# Altium schematic symbol library driver.SCHLIB: 35 symbols
Pins are listed as number, name and electrical type; pins without a type are passive.

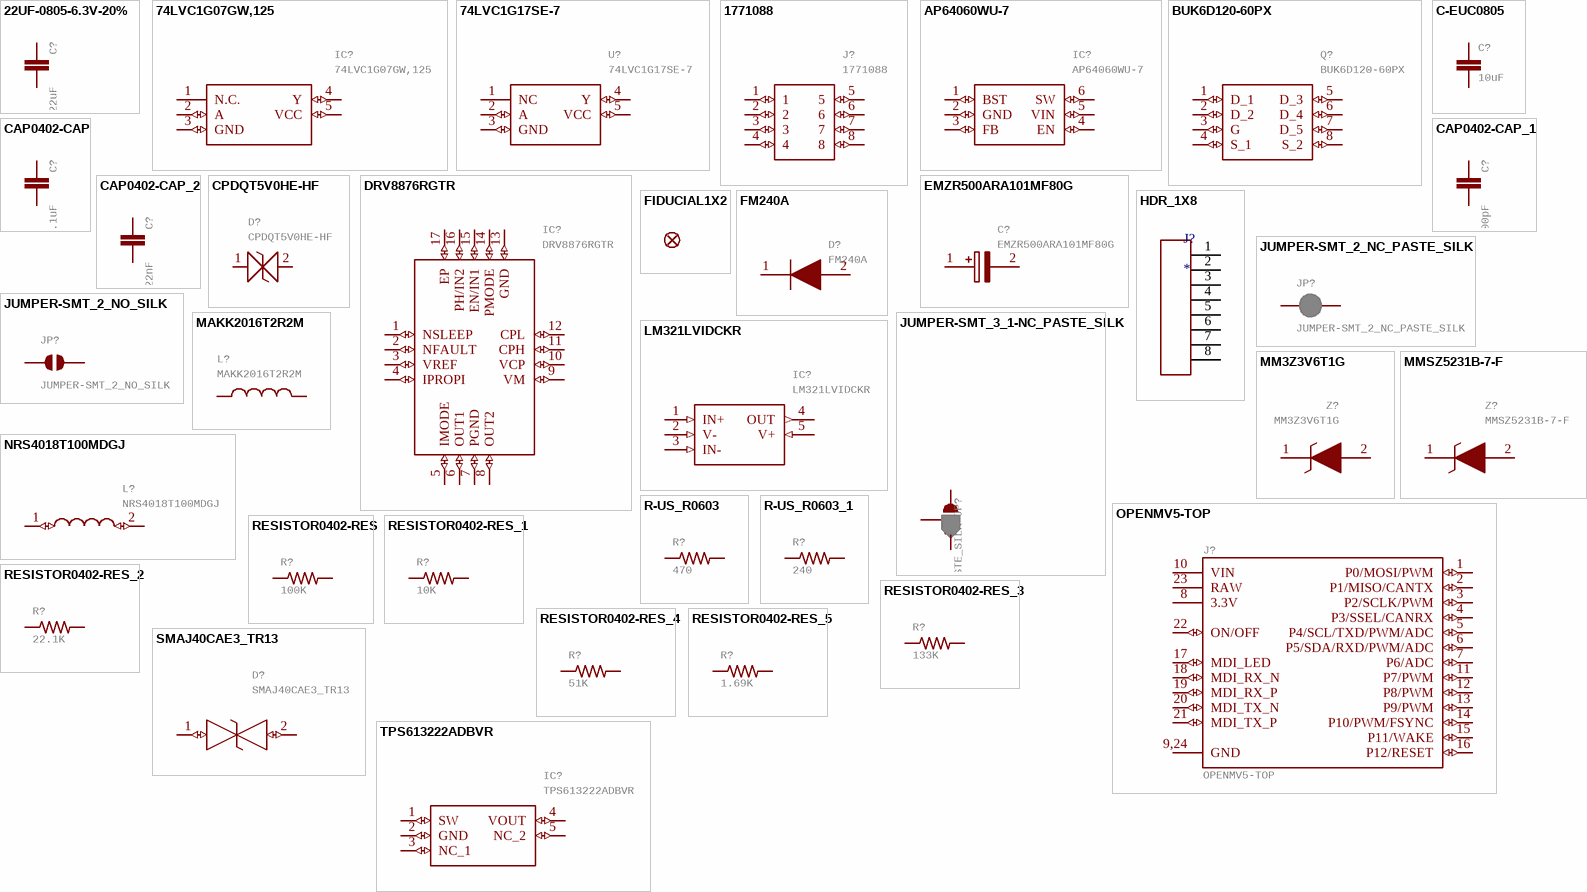
[diagram p0: symbols 22UF-0805-6.3V-20% to TPS613222ADBVR]

## 22UF-0805-6.3V-20%
designator C?, comment 22uF
22ÂµF ceramic capacitors    A capacitor is a passive two-terminal electrical component used to store electrical energy temporarily in an electric field.; MPN: CL21A226MQQNNNE; GateName_1: G$1; SymbolName_1: CAP; DeviceName: -0805-6.3V-20%; PROD_ID: CAP-08402; LibraryName: SparkFun-Capacitors; DeviceSetName: 22UF
footprint 0805
pins: 1, 2

## 74LVC1G07GW,125
designator IC?
74LVC1G07 - Buffer with open-drain output@en-us   Source:  Datasheet; MANUFACTURER_NAME: Nexperia; GateName_1: G$1; SymbolName_1: 74LVC1G07GW,125; LibraryName: 74LVC1G07GW_125; DeviceSetName: 74LVC1G07GW,125; HEIGHT: 1.1mm; MANUFACTURER_PART_NUMBER: 74LVC1G07GW,125; MOUSER_PART_NUMBER: 771-74LVC1G07GW-G; MOUSER_PRICE-STOCK: https://www.mouser.co.uk/ProductDetail/Nexperia/74LVC1G07GW125?qs=me8TqzrmIYW763Mg%2FG86Uw%3D%3D; MPN: 74LVC1G07GW,125
footprint SOT65P212X110-5N
pins: 1 N.C., 2 A (io), 3 GND (io), 4 Y (io), 5 VCC (io)

## 74LVC1G17SE-7
designator U?
DiodesZetex 74LVC1G17SE-7, Buffer, Push-Pull, Non-Inverting, 1.65  5.5 V, 5-Pin SOT-353   Source:  Datasheet; MANUFACTURER_NAME: Diodes Inc.; GateName_1: G$1; SymbolName_1: 74LVC1G17SE-7; LibraryName: 74LVC1G17SE-7; DeviceSetName: 74LVC1G17SE-7; HEIGHT: 1.1mm; MANUFACTURER_PART_NUMBER: 74LVC1G17SE-7; MOUSER_PART_NUMBER: 621-74LVC1G17SE-7; MOUSER_PRICE-STOCK: https://www.mouser.co.uk/ProductDetail/Diodes-Incorporated/74LVC1G17SE-7?qs=FRHfhEBFk1dzIcstjqNcyA%3D%3D; MPN: 74LVC1G17SE-7
footprint SOT65P210X110-5N
pins: 1 NC, 2 A (io), 3 GND (io), 4 Y (io), 5 VCC (io)

## 1771088
designator J?
PCB terminal block, nominal current: 6 A, rated voltage (III/2): 160 V, nominal cross section: 0.5 mm?, Number of potentials: 8, Number of rows: 1, Number of positions per row: 8, product range: PTSM 0,5/..-H-SMD, pitch: 2.5 mm, connection method: Push-in spring connection, mounting: SMD soldering, conductor/PCB connection direction: 0 ?, color: black, Pin layout: Linear pad geometry, type of packaging: packed in cardboard   Source:  Datasheet; MANUFACTURER_NAME: Phoenix Contact; GateName_1: G$1; SymbolName_1: 1771088; LibraryName: 1771088; DeviceSetName: 1771088; HEIGHT: 5.22mm; MANUFACTURER_PART_NUMBER: 1771088; MOUSER_PART_NUMBER: 651-1771088; MOUSER_PRICE-STOCK: https://www.mouser.co.uk/ProductDetail/Phoenix-Contact/1771088?qs=Q77YN%2FRrsKIDMojcNKtpFQ%3D%3D; MPN: 1771088
footprint 1771088
pins: 1 (io), 2 (io), 3 (io), 4 (io), 5 (io), 6 (io), 7 (io), 8 (io)

## AP64060WU-7
designator IC?
Switching Voltage Regulators DCDC Conv HV Buck TSOT26(STD) T&R 3K   Source:  Datasheet; MANUFACTURER_NAME: Diodes Inc.; GateName_1: G$1; SymbolName_1: AP64060WU-7; LibraryName: AP64060WU-7; DeviceSetName: AP64060WU-7; HEIGHT: 1mm; MANUFACTURER_PART_NUMBER: AP64060WU-7; MOUSER_PART_NUMBER: 621-AP64060WU-7; MOUSER_PRICE-STOCK: https://www.mouser.co.uk/ProductDetail/Diodes-Incorporated/AP64060WU-7?qs=Li%252BoUPsLEntiZYjFw%252BCbiQ%3D%3D; MPN: AP64060WU-7
footprint SOT95P280X100-6N
pins: 1 BST (io), 2 GND (io), 3 FB (io), 4 EN (io), 5 VIN (io), 6 SW (io)

## BUK6D120-60PX
designator Q?
MOSFET 60V P-CH TRENCHMOS SOT1220   Source:  Datasheet; MANUFACTURER_NAME: Nexperia; GateName_1: G$1; SymbolName_1: BUK6D120-60PX; LibraryName: BUK6D120-60PX; DeviceSetName: BUK6D120-60PX; HEIGHT: 0.65mm; MANUFACTURER_PART_NUMBER: BUK6D120-60PX; MOUSER_PART_NUMBER: 771-BUK6D120-60PX; MOUSER_PRICE-STOCK: https://www.mouser.co.uk/ProductDetail/Nexperia/BUK6D120-60PX?qs=F5EMLAvA7IBtoNC2L3hOcQ%3D%3D; MPN: BUK6D120-60PX
footprint BUK6D12060PX
pins: 1 D_1 (io), 2 D_2 (io), 3 G (io), 4 S_1 (io), 5 D_3 (io), 6 D_4 (io), 7 D_5 (io), 8 S_2 (io)

## C-EUC0805
designator C?, comment 10uF
CAPACITOR, European symbol; MPN: GRM21BR61H106KE43K; GateName_1: G$1; SymbolName_1: C-EU; DeviceName: C0805; POPULARITY: 88; LibraryName: rcl; DeviceSetName: C-EU; SPICEPREFIX: C
footprint C0805
pins: 1, 2

## CAP0402-CAP
designator C?, comment 0.1uF
CapacitorStandard 0603 ceramic capacitor, and 0.1" leaded capacitor.; MPN: GRM155R71H104KE14D; GateName_1: G$1; SymbolName_1: CAP; DeviceName: 0402-CAP; LibraryName: sfe; DeviceSetName: CAP
footprint 0402-CAP
pins: 1, 2

## CAP0402-CAP_1
designator C?, comment 100pF
CapacitorStandard 0603 ceramic capacitor, and 0.1" leaded capacitor.; MPN: CC0402JRNPO9BN101; GateName_1: G$1; SymbolName_1: CAP; DeviceName: 0402-CAP; LibraryName: sfe; DeviceSetName: CAP
footprint 0402-CAP
pins: 1, 2

## CAP0402-CAP_2
designator C?, comment 22nF
CapacitorStandard 0603 ceramic capacitor, and 0.1" leaded capacitor.; MPN: GRM155R71H223KA12D; GateName_1: G$1; SymbolName_1: CAP; DeviceName: 0402-CAP; LibraryName: sfe; DeviceSetName: CAP
footprint 0402-CAP
pins: 1, 2

## CPDQT5V0HE-HF
designator D?
ESD Suppressors / TVS Diodes DIODE ESD 5VWM 65W 0402/SOD-923F   Source:  Datasheet; MANUFACTURER_NAME: Comchip Technology; GateName_1: G$1; SymbolName_1: CPDQT5V0HE-HF; LibraryName: CPDQT5V0HE-HF; DeviceSetName: CPDQT5V0HE-HF; HEIGHT: 0.42mm; MANUFACTURER_PART_NUMBER: CPDQT5V0HE-HF; MOUSER_PART_NUMBER: MOUSER_PART_NUMBER; MOUSER_PRICE-STOCK: MOUSER_PRICE-STOCK; MPN: CPDQT5V0HE-HF
footprint CPDQT5V0HEHF
pins: 1 (io), 2 (io)

## DRV8876RGTR
designator IC?
Motor / Motion / Ignition Controllers & Drivers 37-V, 3.5-A brushed DC motor driver with integrated current sensing and current sense output 16-VQFN -40 to 125   Source:  Datasheet; MANUFACTURER_NAME: Texas Instruments; GateName_1: G$1; SymbolName_1: DRV8876RGTR; LibraryName: DRV8876RGTR; DeviceSetName: DRV8876RGTR; HEIGHT: 1mm; MANUFACTURER_PART_NUMBER: DRV8876RGTR; MOUSER_PART_NUMBER: 595-DRV8876RGTR; MOUSER_PRICE-STOCK: https://www.mouser.co.uk/ProductDetail/Texas-Instruments/DRV8876RGTR?qs=T3oQrply3y%2F6lJwB3MIeHA%3D%3D; MPN: DRV8876RGTR
footprint QFN50P300X300X100-17N
pins: 1 NSLEEP (io), 2 NFAULT (io), 3 VREF (io), 4 IPROPI (io), 5 IMODE (io), 6 OUT1 (io), 7 PGND (io), 8 OUT2 (io), 9 VM (io), 10 VCP (io), 11 CPH (io), 12 CPL (io), 13 GND (io), 14 PMODE (io), 15 EN/IN1 (io), 16 PH/IN2 (io), 17 EP (io)

## EMZR500ARA101MF80G
designator C?
Aluminum Electrolytic Capacitors - SMD 100uF 50V 20%   Source:  Datasheet; MANUFACTURER_NAME: Chemi-Con; GateName_1: G$1; SymbolName_1: EMZR500ARA101MF80G; LibraryName: EMZR500ARA101MF80G; DeviceSetName: EMZR500ARA101MF80G; HEIGHT: 8.2mm; MANUFACTURER_PART_NUMBER: EMZR500ARA101MF80G; MOUSER_PART_NUMBER: 661-EMZR500ARA101MF8; MOUSER_PRICE-STOCK: https://www.mouser.co.uk/ProductDetail/United-Chemi-Con/EMZR500ARA101MF80G?qs=y6ZabgHbY%252ByQ3zUEIlMmqw%3D%3D; MPN: EMZR500ARA101MF80G
footprint CAPAE660X820N
pins: 1 + (io), 2 - (io)

## FIDUCIAL1X2
designator FD?  (value not drawn)
Fiducial Alignment Points    Point-of-reference for pick-and-place machines and other optical instruments.; GateName_1: G$1; DeviceName: 1X2; SymbolName_1: FIDUCIAL; LibraryName: SparkFun-Aesthetics; DeviceSetName: FIDUCIAL
footprint FIDUCIAL-1X2

## FM240A
designator D?
Diodes - General Purpose, Power, Switching GP Si Rectifier SMB,2A,40V   Source:  Datasheet; MANUFACTURER_NAME: Rectron; GateName_1: G$1; SymbolName_1: FM240A; LibraryName: FM240A; DeviceSetName: FM240A; HEIGHT: 2.31mm; MANUFACTURER_PART_NUMBER: FM240A; MOUSER_PART_NUMBER: 583-FM240A; MOUSER_PRICE-STOCK: https://www.mouser.co.uk/ProductDetail/Rectron/FM240A?qs=7pEAo90IqNG7sknZwmLYhQ%3D%3D; MPN: FM240A
footprint DIOM5025X231N
pins: 1 K (io), 2 A (io)

## HDR_1X8
designator J?
footprint HDR_1X8
pins: 1, 2, 3, 4, 5, 6, 7, 8

## JUMPER-SMT_2_NC_PASTE_SILK
designator JP?
Normally closed solder jumper    This jumper has an aperture in the stencil to allow solder paste to bridge the split in the wire so it's normally closed (NC). Wick off the solder to open the connection. Reapply solder to reclose the connection.; GateName_1: G$1; SymbolName_1: SMT-JUMPER_2_NC_PASTE; DeviceName: _SILK; LibraryName: SparkFun-Jumpers; DeviceSetName: JUMPER-SMT_2_NC_PASTE
footprint SMT-JUMPER_2_NC_PASTE_SILK
pins: 1, 2

## JUMPER-SMT_2_NO_SILK
designator JP?
Normally open jumper    This jumper has two pads in close proximity to each other. Apply solder to close the connection.   Round pads are easier to solder for beginners, but are a lot larger.   SparkFun Product that uses the round pads:  SparkFun EL Sequencer; GateName_1: G$1; SymbolName_1: SMT-JUMPER_2_NO; DeviceName: _SILK; LibraryName: SparkFun-Jumpers; DeviceSetName: JUMPER-SMT_2_NO
footprint SMT-JUMPER_2_NO_SILK
pins: 1, 2

## JUMPER-SMT_3_1-NC_PASTE_SILK
designator JP?
Normally closed solder jumper (1 of 2 connections)    This jumper has an aperture in the stencil to allow solder paste to bridge one of the two connections. One connection is normally closed (NC), while the other is normally open (NO). Wick off the solder to open the connection. Reapply solder to reclose the connection. Apply solder to the other side instead to change the current path.; GateName_1: G$1; SymbolName_1: SMT-JUMPER_3_1-NC_PASTE; DeviceName: _SILK; LibraryName: SparkFun-Jumpers; DeviceSetName: JUMPER-SMT_3_1-NC_PASTE
footprint SMT-JUMPER_3_1-NC_PASTE_SILK
pins: 1, 2, 3

## LM321LVIDCKR
designator IC?
1-Channel industry standard low voltage operational amplifier   Source:  Datasheet; MANUFACTURER_NAME: Texas Instruments; GateName_1: G$1; SymbolName_1: LM321LVIDCKR; LibraryName: LM321LVIDCKR; DeviceSetName: LM321LVIDCKR; HEIGHT: 1.1mm; MANUFACTURER_PART_NUMBER: LM321LVIDCKR; MOUSER_PART_NUMBER: 595-LM321LVIDCKR; MOUSER_PRICE-STOCK: https://www.mouser.co.uk/ProductDetail/Texas-Instruments/LM321LVIDCKR?qs=qSfuJ%252Bfl%2Fd6RcyTOjkRx5Q%3D%3D; MPN: LM321LVIDCKR
footprint SOT65P210X110-5N
pins: 1 IN+ (in), 2 V- (in), 3 IN- (in), 4 OUT (out), 5 V+ (in)

## MAKK2016T2R2M
designator L?
INDUCTOR, METAL CORE Check availability; GateName_1: G$1; MF: Taiyo Yuden; SymbolName_1: MAKK2016T2R2M; LibraryName: MAKK2016T2R2M; DeviceSetName: MAKK2016T2R2M; AVAILABILITY: In Stock; MP: MAKK2016T2R2M; MPN: MAKK2016T2R2M; PACKAGE: 2016 Taiyo Yuden; PRICE: None; PURCHASE-URL: https://pricing.snapeda.com/search/part/MAKK2016T2R2M/?ref=eda
footprint INDC2016X100N
pins: 1, 2

## MM3Z3V6T1G
designator Z?
ON Semiconductor MM3Z3V6T1G Zener Diode, 3.6V 5% 200 mW SMT 2-Pin SOD-323   Source:  Datasheet; MANUFACTURER_NAME: onsemi; GateName_1: G$1; SymbolName_1: MM3Z3V6T1G; LibraryName: MM3Z3V6T1G; DeviceSetName: MM3Z3V6T1G; HEIGHT: 1.1mm; MANUFACTURER_PART_NUMBER: MM3Z3V6T1G; MOUSER_PART_NUMBER: 863-MM3Z3V6T1G; MOUSER_PRICE-STOCK: https://www.mouser.co.uk/ProductDetail/onsemi/MM3Z3V6T1G?qs=HVbQlW5zcXWbZo78nv8gqg%3D%3D; MPN: MM3Z3V6T1G
footprint SOD2512X110N
pins: 1 K (io), 2 A (io)

## MMSZ5231B-7-F
designator Z?
Zener Diode 5.1V 5% 500mW SOD123 Diodes Inc MMSZ5231B-7-F Zener Diode, 5.1V 5% 0.5 W SMT 2-Pin SOD-123   Source:  Datasheet; MANUFACTURER_NAME: Diodes Inc.; GateName_1: G$1; SymbolName_1: MMSZ5231B-7-F; LibraryName: MMSZ5231B-7-F; DeviceSetName: MMSZ5231B-7-F; HEIGHT: 1.45mm; MANUFACTURER_PART_NUMBER: MMSZ5231B-7-F; MOUSER_PART_NUMBER: 621-MMSZ5231B-F; MOUSER_PRICE-STOCK: https://www.mouser.co.uk/ProductDetail/Diodes-Incorporated/MMSZ5231B-7-F?qs=2ygBApjwyeMh7Sf0YL1qSw%3D%3D; MPN: MMSZ5231B-7-F
footprint SOD3716X145N
pins: 1 K (io), 2 A (io)

## NRS4018T100MDGJ
designator L?
Fixed Inductors 4018 10uH 180mOhms +/-20%Tol 1200mA   Source:  Datasheet; MANUFACTURER_NAME: TAIYO YUDEN; GateName_1: G$1; SymbolName_1: NRS4018T100MDGJ; LibraryName: NRS4018T100MDGJ; DeviceSetName: NRS4018T100MDGJ; HEIGHT: 1mm; MANUFACTURER_PART_NUMBER: NRS4018T100MDGJ; MOUSER_PART_NUMBER: 963-NRS4018T100MDGJ; MOUSER_PRICE-STOCK: https://www.mouser.co.uk/ProductDetail/TAIYO-YUDEN/NRS4018T100MDGJ?qs=PzICbMaShUeiyHfvjt6KEw%3D%3D; MPN: NRS4018T100MDGJ
footprint NRS4018T100MDGJ
pins: 1 (io), 2 (io)

## OPENMV5-TOP
designator J?
GateName_1: G$1; SymbolName_1: OPENMV5; LibraryName: openmv5; DeviceSetName: OPENMV5-TOP
footprint OPENMV5-TOP
pins: 1 P0/MOSI/PWM (io), 2 P1/MISO/CANTX (io), 3 P2/SCLK/PWM (io), 4 P3/SSEL/CANRX (io), 5 P4/SCL/TXD/PWM/ADC (io), 6 P5/SDA/RXD/PWM/ADC (io), 7 P6/ADC (io), 8 3.3V (power), 9,24 GND (power), 10 VIN (power), 11 P7/PWM (io), 12 P8/PWM (io), 13 P9/PWM (io), 14 P10/PWM/FSYNC (io), 15 P11/WAKE (io), 16 P12/RESET (io), 17 MDI_LED (io), 18 MDI_RX_N (io), 19 MDI_RX_P (io), 20 MDI_TX_N (io), 21 MDI_TX_P (io), 22 ON/OFF (io), 23 RAW (power)

## R-US_R0603
designator R?, comment 470
RESISTOR, American symbol; MPN: CR0603-FX-4700ELF; GateName_1: G$1; SymbolName_1: R-US; DeviceName: R0603; DeviceSetName: R-US_; POPULARITY: 77; LibraryName: rcl; SPICEPREFIX: R
footprint R0603
pins: 1, 2

## R-US_R0603_1
designator R?, comment 240
RESISTOR, American symbol; MPN: RK73B1JTTD241J; GateName_1: G$1; SymbolName_1: R-US; DeviceName: R0603; DeviceSetName: R-US_; POPULARITY: 77; LibraryName: rcl; SPICEPREFIX: R
footprint R0603
pins: 1, 2

## RESISTOR0402-RES
designator R?, comment 100K
ResistorBasic schematic elements and footprints for 0603, 1206, and PTH resistors.; MPN: AC0402FR-07100KL; GateName_1: G$1; DeviceName: 0402-RES; SymbolName_1: RESISTOR; LibraryName: sfe; DeviceSetName: RESISTOR
footprint 0402-RES
pins: 1, 2

## RESISTOR0402-RES_1
designator R?, comment 10K
ResistorBasic schematic elements and footprints for 0603, 1206, and PTH resistors.; MPN: AC0402FR-1310KL; GateName_1: G$1; DeviceName: 0402-RES; SymbolName_1: RESISTOR; LibraryName: sfe; DeviceSetName: RESISTOR
footprint 0402-RES
pins: 1, 2

## RESISTOR0402-RES_2
designator R?, comment 22.1K
ResistorBasic schematic elements and footprints for 0603, 1206, and PTH resistors.; MPN: CR0402-FX-2212GLF; GateName_1: G$1; DeviceName: 0402-RES; SymbolName_1: RESISTOR; LibraryName: sfe; DeviceSetName: RESISTOR
footprint 0402-RES
pins: 1, 2

## RESISTOR0402-RES_3
designator R?, comment 133K
ResistorBasic schematic elements and footprints for 0603, 1206, and PTH resistors.; MPN: RC0402FR-07133KL; GateName_1: G$1; DeviceName: 0402-RES; SymbolName_1: RESISTOR; LibraryName: sfe; DeviceSetName: RESISTOR
footprint 0402-RES
pins: 1, 2

## RESISTOR0402-RES_4
designator R?, comment 51K
ResistorBasic schematic elements and footprints for 0603, 1206, and PTH resistors.; MPN: RC0402JR-0751KL; GateName_1: G$1; DeviceName: 0402-RES; SymbolName_1: RESISTOR; LibraryName: sfe; DeviceSetName: RESISTOR
footprint 0402-RES
pins: 1, 2

## RESISTOR0402-RES_5
designator R?, comment 1.69K
ResistorBasic schematic elements and footprints for 0603, 1206, and PTH resistors.; MPN: RC0402FR-07169RL; GateName_1: G$1; DeviceName: 0402-RES; SymbolName_1: RESISTOR; LibraryName: sfe; DeviceSetName: RESISTOR
footprint 0402-RES
pins: 1, 2

## SMAJ40CAE3_TR13
designator D?
ESD Suppressors / TVS Diodes TVS   Source:  Datasheet; MANUFACTURER_NAME: Microchip; MANUFACTURER_PART_NUMBER: SMAJ40CAe3/TR13; GateName_1: G$1; SymbolName_1: SMAJ40CAE3_TR13; LibraryName: SMAJ40CAe3_TR13; DeviceSetName: SMAJ40CAE3_TR13; HEIGHT: 3.05mm; MOUSER_PART_NUMBER: 494-SMAJ40CAE3/TR13; MOUSER_PRICE-STOCK: https://www.mouser.co.uk/ProductDetail/Microchip-Technology/SMAJ40CAe3-TR13?qs=pU29NIZ4ZwCw3PnlxOleOw%3D%3D; MPN: SMAJ40CAe3/TR13
footprint SMAJ40CAE3TR13
pins: 1 (io), 2 (io)

## TPS613222ADBVR
designator IC?
6-uA Quiescent Current, 1.8-A Switch Current Boost Converter   Source:  Datasheet; MANUFACTURER_NAME: Texas Instruments; GateName_1: G$1; SymbolName_1: TPS613222ADBVR; LibraryName: TPS613222ADBVR; DeviceSetName: TPS613222ADBVR; HEIGHT: 1.45mm; MANUFACTURER_PART_NUMBER: TPS613222ADBVR; MOUSER_PART_NUMBER: 595-TPS613222ADBVR; MOUSER_PRICE-STOCK: https://www.mouser.co.uk/ProductDetail/Texas-Instruments/TPS613222ADBVR?qs=W0yvOO0ixfE4d69WXsn8NQ%3D%3D; MPN: TPS613222ADBVR
footprint SOT95P280X145-5N
pins: 1 SW (io), 2 GND (io), 3 NC_1 (io), 4 VOUT (io), 5 NC_2 (io)